# Altium integrated library Analog Devices Data Converters Analog-to-Digital Converters.IntLib: 2400 symbols (part 132 of 338)
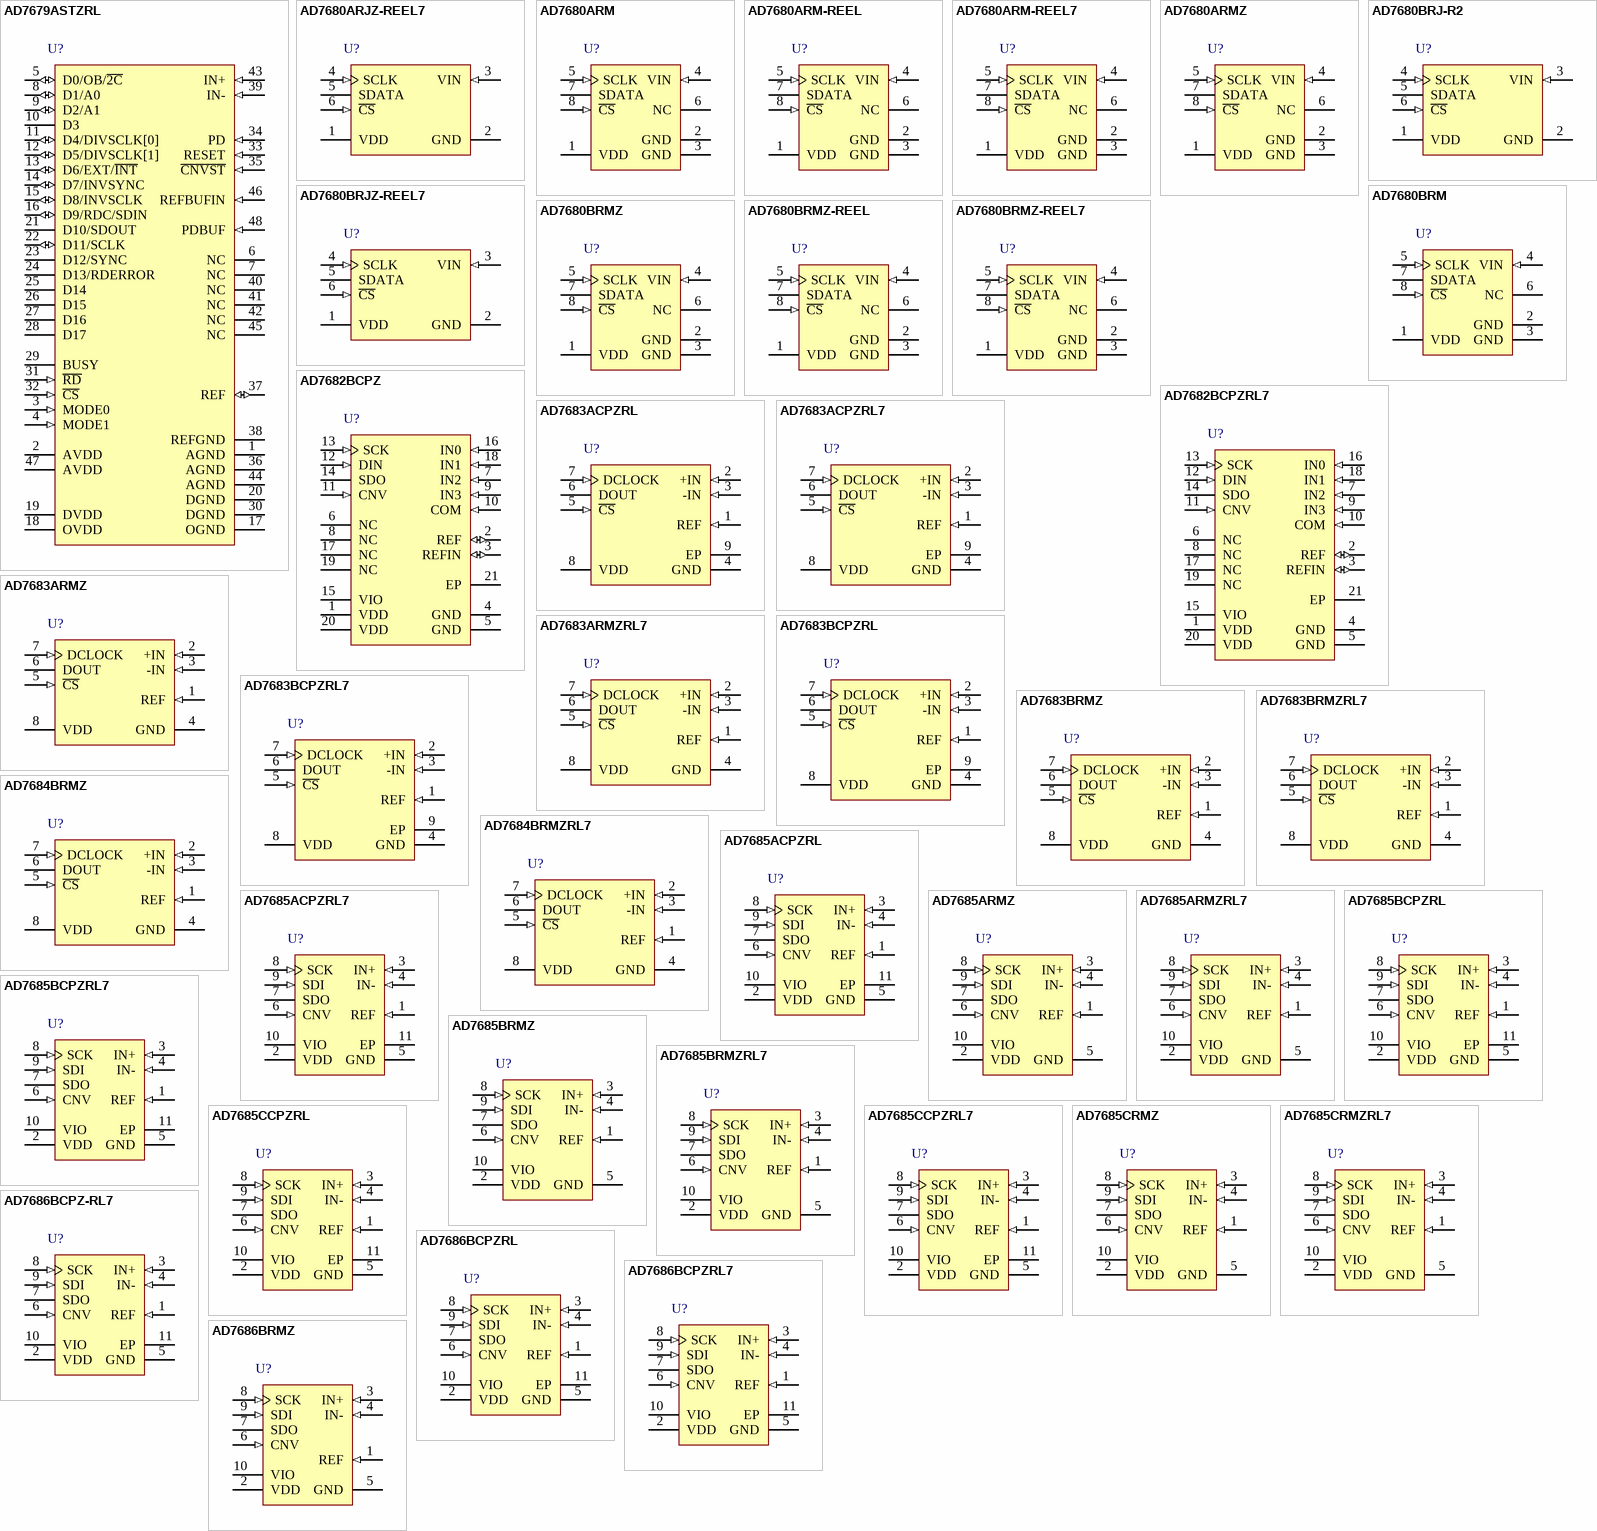
[diagram p331: symbols AD7679ASTZRL to AD7686BRMZ]

## AD7680BRMZ-REEL7
designator U?
Single 16-Bit Analog-to-Digital Converter with Serial, SPI Interface, 100KSPS, -40 to +85 degC, RM-8, Pb-Free, Reel; Part Number: AD7680; Manufacturer: Analog Devices; Resolution (Bits): 16; Channels: 1; Throughput Rate (SPS): 100K; Interface: Ser, SPI; DatasheetVersion: Rev. A; PackageVersion: Aug-2005; PackageReference: RM-8; PackageDescription: 8-Lead Mini Small Outline Package [MSOP]; RoHS: Y; Packing: Reel; Mounting Technology: Surface Mount; Code_JEDEC: MO-187-AA; ComponentLink1Description: Manufacturer URL; ComponentLink1URL: http://www.analog.com/en/index.html; ComponentLink2Description: Datasheet; ComponentLink2URL: http://www.analog.com/static/imported-files/data_sheets/AD7680.pdf; ComponentLink3Description: Package Specification; ComponentLink3URL: http://www.analog.com/static/imported-files/packages/PKG_PDF/MSOP%28RM%29/RM_8.pdf; ComponentLink4Description: Product URL; ComponentLink4URL: http://www.analog.com/en/analog-to-digital-converters/ad-converters/ad7680/products/product.html
footprint RM-8_N (TSOP, 8-Leads, Body 3x3mm, Pitch 0.65mm, IPC Medium Density)
footprint RM-8_L (TSOP, 8-Leads, Body 3x3mm, Pitch 0.65mm, IPC High Density)
footprint RM-8_M (TSOP, 8-Leads, Body 3x3mm, Pitch 0.65mm, IPC Low Density)
pins: 1 VDD (power) "Power Supply Input. The VDD range for the AD7680 is from 2.5 V to 5.5 V.", 2 GND (power) "Analog Ground. Ground reference point for all circuitry on the AD7680. All analog input signals should be referred to this GND voltage.", 3 GND (power) "Analog Ground. Ground reference point for all circuitry on the AD7680. All analog input signals should be referred to this GND voltage.", 4 VIN (in) "Analog Input. Single-ended analog input channel. The input range is 0 V to VDD", 5 SCLK (in) "Serial Clock. Logic input. SCLK provides the serial clock for accessing data from this part. This clock input is also used as the clock source for the AD7680's conversion process.", 6 NC "No Connect. This pin should be left unconnected.", 7 SDATA (hiz) "Data Out. Logic output. The conversion result from the AD7680 is provided on this output as a serial data stream. The bits are clocked out on the falling edge of the SCLK input. The data stream from the AD7680 consists of (See Datasheet)", 8 ~{CS} (in) "Chip Select. Active low logic input. This input provides the dual function of initiating conversions on the AD7680 and framing the serial data transfer."

## AD7682BCPZ
designator U?
Quad 16-Bit PulSAR Analog-to-Digital Converter with Serial, SPI Interface, 250KSPS, -40 to +85 degC, CP-20-4, Pb-Free, Tray; Part Number: AD7682; Manufacturer: Analog Devices; Resolution (Bits): 16; Channels: 4; Throughput Rate (SPS): 250K; Interface: Ser, SPI; DatasheetVersion: Rev.D; PackageVersion: 012508-B; PackageReference: CP-20-4; PackageDescription: 20-Lead Lead Frame Chip Scale Package [LFCSP_VQ] 4 x 4 mm Body, Very Thin Quad; RoHS: Y; Packing: Tray; Mounting Technology: Surface Mount; Code_JEDEC: MO-220-VGGD-1; ComponentLink1Description: Manufacturer URL; ComponentLink1URL: http://www.analog.com/en/index.html; ComponentLink2Description: Datasheet; ComponentLink2URL: http://www.analog.com/static/imported-files/data_sheets/AD7682_7689.pdf; ComponentLink3Description: Package Specification; ComponentLink3URL: http://www.analog.com/static/imported-files/packages/PKG_PDF/LFCSP(CP)/CP_20_4.pdf; ComponentLink4Description: Product URL; ComponentLink4URL: http://www.analog.com/en/analog-to-digital-converters/ad-converters/ad7682/products/product.html
footprint CP-20-4_N (QFN, 20-Leads, Body 4x4mm, Pitch 0.5mm, Thermal Pad 2.5x2.5mm, IPC Medium Density)
footprint CP-20-4_L (QFN, 20-Leads, Body 4x4mm, Pitch 0.5mm, Thermal Pad 2.5x2.5mm, IPC High Density)
footprint CP-20-4_M (QFN, 20-Leads, Body 4x4mm, Pitch 0.5mm, Thermal Pad 2.5x2.5mm, IPC Low Density)
pins: 1 VDD (power) "Power Supply. Nominally 2.5 V to 5.5 V when using an external reference and decoupled with 10 uF and 100 nF capacitors. When using the internal reference for a2.5 V output, the minimum should be 3.0 V. When using the (See Datasheet)", 2 REF (io) "Reference Input/Output. See the Voltage Reference Output/Input section. When the internal reference is enabled, this pin produces a selectable system reference of 2.5 V or 4.096 V. When the internal reference is disabled and (See Datasheet)", 3 REFIN (io) "Internal Reference Output/Reference Buffer Input. See the Voltage Reference Output/Input section. When using the internal reference, the internal unbuffered reference voltage is present and needs decoupling with a 0.1 uF (See Datasheet)", 4 GND (power) "Power Supply Ground.", 5 GND (power) "Power Supply Ground.", 6 NC "no connection.", 7 IN2 (in) "Analog Input Channel 2.", 8 NC "no connection.", 9 IN3 (in) "Analog Input Channel 3.", 10 COM (in) "Common Channel Input. All input channels, IN[7:0], can be referenced to a common-mode point of 0 V or VREF/2 V.", 11 CNV (in) "Conversion Input. On the rising edge, CNV initiates the conversion. During conversion, if CNV is held low, the busy indictor is enabled.", 12 DIN (in) "Data Input. This input is used for writing to the 14-bit configuration register. The configuration register can be written to during and after conversion.", 13 SCK (in) "Serial Data Clock Input. This input is used to clock out the data on SDO and clock in data on DIN in an MSB first fashion.", 14 SDO (hiz) "Serial Data Output. The conversion result is output on this pin, synchronized to SCK. In unipolar modes, conversion results are straight binary; in bipolar modes, conversion results are twos complement.", 15 VIO (power) "Input/Output Interface Digital Power. Nominally at the same supply as the host interface (1.8 V, 2.5 V, 3 V, or 5 V).", 16 IN0 (in) "Analog Input Channel 0.", 17 NC "no connection.", 18 IN1 (in) "Analog Input Channel 1.", 19 NC "no connection.", 20 VDD (power) "Power Supply. Nominally 2.5 V to 5.5 V when using an external reference and decoupled with 10 uF and 100 nF capacitors. When using the internal reference for a2.5 V output, the minimum should be 3.0 V. When using the (See Datasheet)", 21 EP (power) "The exposed pad is not connected internally. For increased reliability of the solder joints, it is recommended that the pad be soldered to the system ground plane."

## AD7682BCPZRL7
designator U?
Quad 16-Bit PulSAR Analog-to-Digital Converter with Serial, SPI Interface, 250KSPS, -40 to +85 degC, CP-20-4, Pb-Free, Reel; Part Number: AD7682; Manufacturer: Analog Devices; Resolution (Bits): 16; Channels: 4; Throughput Rate (SPS): 250K; Interface: Ser, SPI; DatasheetVersion: Rev.D; PackageVersion: 012508-B; PackageReference: CP-20-4; PackageDescription: 20-Lead Lead Frame Chip Scale Package [LFCSP_VQ] 4 x 4 mm Body, Very Thin Quad; RoHS: Y; Packing: Reel; Mounting Technology: Surface Mount; Code_JEDEC: MO-220-VGGD-1; ComponentLink1Description: Manufacturer URL; ComponentLink1URL: http://www.analog.com/en/index.html; ComponentLink2Description: Datasheet; ComponentLink2URL: http://www.analog.com/static/imported-files/data_sheets/AD7682_7689.pdf; ComponentLink3Description: Package Specification; ComponentLink3URL: http://www.analog.com/static/imported-files/packages/PKG_PDF/LFCSP(CP)/CP_20_4.pdf; ComponentLink4Description: Product URL; ComponentLink4URL: http://www.analog.com/en/analog-to-digital-converters/ad-converters/ad7682/products/product.html
footprint CP-20-4_N (QFN, 20-Leads, Body 4x4mm, Pitch 0.5mm, Thermal Pad 2.5x2.5mm, IPC Medium Density)
footprint CP-20-4_L (QFN, 20-Leads, Body 4x4mm, Pitch 0.5mm, Thermal Pad 2.5x2.5mm, IPC High Density)
footprint CP-20-4_M (QFN, 20-Leads, Body 4x4mm, Pitch 0.5mm, Thermal Pad 2.5x2.5mm, IPC Low Density)
pins: 1 VDD (power) "Power Supply. Nominally 2.5 V to 5.5 V when using an external reference and decoupled with 10 uF and 100 nF capacitors. When using the internal reference for a2.5 V output, the minimum should be 3.0 V. When using the (See Datasheet)", 2 REF (io) "Reference Input/Output. See the Voltage Reference Output/Input section. When the internal reference is enabled, this pin produces a selectable system reference of 2.5 V or 4.096 V. When the internal reference is disabled and (See Datasheet)", 3 REFIN (io) "Internal Reference Output/Reference Buffer Input. See the Voltage Reference Output/Input section. When using the internal reference, the internal unbuffered reference voltage is present and needs decoupling with a 0.1 uF (See Datasheet)", 4 GND (power) "Power Supply Ground.", 5 GND (power) "Power Supply Ground.", 6 NC "no connection.", 7 IN2 (in) "Analog Input Channel 2.", 8 NC "no connection.", 9 IN3 (in) "Analog Input Channel 3.", 10 COM (in) "Common Channel Input. All input channels, IN[7:0], can be referenced to a common-mode point of 0 V or VREF/2 V.", 11 CNV (in) "Conversion Input. On the rising edge, CNV initiates the conversion. During conversion, if CNV is held low, the busy indictor is enabled.", 12 DIN (in) "Data Input. This input is used for writing to the 14-bit configuration register. The configuration register can be written to during and after conversion.", 13 SCK (in) "Serial Data Clock Input. This input is used to clock out the data on SDO and clock in data on DIN in an MSB first fashion.", 14 SDO (hiz) "Serial Data Output. The conversion result is output on this pin, synchronized to SCK. In unipolar modes, conversion results are straight binary; in bipolar modes, conversion results are twos complement.", 15 VIO (power) "Input/Output Interface Digital Power. Nominally at the same supply as the host interface (1.8 V, 2.5 V, 3 V, or 5 V).", 16 IN0 (in) "Analog Input Channel 0.", 17 NC "no connection.", 18 IN1 (in) "Analog Input Channel 1.", 19 NC "no connection.", 20 VDD (power) "Power Supply. Nominally 2.5 V to 5.5 V when using an external reference and decoupled with 10 uF and 100 nF capacitors. When using the internal reference for a2.5 V output, the minimum should be 3.0 V. When using the (See Datasheet)", 21 EP (power) "The exposed pad is not connected internally. For increased reliability of the solder joints, it is recommended that the pad be soldered to the system ground plane."

## AD7683ACPZRL
designator U?
Single 16-Bit PulSAR Analog-to-Digital Converter with Serial, SPI Interface, 100KSPS, -40 to +85 degC, CP-8-3, Pb-Free, Reel; Part Number: AD7683; Manufacturer: Analog Devices; Resolution (Bits): 16; Channels: 1; Throughput Rate (SPS): 100K; Interface: Ser, SPI; DatasheetVersion: Rev.A; PackageVersion: 041608-B; PackageReference: CP-8-3; PackageDescription: 8-Lead Lead Frame Chip Scale Package [LFCSP_WD] 3 x 3 mm Body, Very Very Thin, Dual Lead; RoHS: Y; Packing: Reel; Mounting Technology: Surface Mount; ComponentLink1Description: Manufacturer URL; ComponentLink1URL: http://www.analog.com/en/index.html; ComponentLink2Description: Datasheet; ComponentLink2URL: http://www.analog.com/static/imported-files/data_sheets/AD7683.pdf; ComponentLink3Description: Product URL; ComponentLink3URL: http://www.analog.com/en/analog-to-digital-converters/ad-converters/ad7683/products/product.html
footprint CP-8-3_N (SON, 8-Leads, Body 3x3mm, Pitch 0.65mm, Thermal Pad 2.35x1.6mm, IPC Medium Density)
footprint CP-8-3_L (SON, 8-Leads, Body 3x3mm, Pitch 0.65mm, Thermal Pad 2.35x1.6mm, IPC High Density)
footprint CP-8-3_M (SON, 8-Leads, Body 3x3mm, Pitch 0.65mm, Thermal Pad 2.35x1.6mm, IPC Low Density)
pins: 1 REF (in) "Reference Input Voltage. The REF range is from 0.5 V to VDD. It is referred to the GND pin. Decouple the REF pin closely to the GND pin with a ceramic capacitor of a few uF.", 2 +IN (in) "Analog Input. It is referred to Pin -IN. The voltage range, that is, the difference between +IN and -IN, is 0 V to VREF.", 3 -IN (in) "Analog Input Ground Sense. Connect this pin to either the analog ground plane or a remote sense ground.", 4 GND (power) "Power Supply Ground.", 5 ~{CS} (in) "Chip Select Input. On its falling edge, it initiates the conversions. The part returns to shutdown mode as soon as the conversion is completed. It also enables DOUT. When high, DOUT is high impedance.", 6 DOUT (hiz) "Serial Data Output. The conversion result is output on this pin. It is synchronized to DCLOCK.", 7 DCLOCK (in) "Serial Data Clock Input.", 8 VDD (power) "Power Supply.", 9 EP (power) "Exposed pad."

## AD7683ACPZRL7
designator U?
Single 16-Bit PulSAR Analog-to-Digital Converter with Serial, SPI Interface, 100KSPS, -40 to +85 degC, CP-8-3, Pb-Free, Reel; Part Number: AD7683; Manufacturer: Analog Devices; Resolution (Bits): 16; Channels: 1; Throughput Rate (SPS): 100K; Interface: Ser, SPI; DatasheetVersion: Rev.A; PackageVersion: 041608-B; PackageReference: CP-8-3; PackageDescription: 8-Lead Lead Frame Chip Scale Package [LFCSP_WD] 3 x 3 mm Body, Very Very Thin, Dual Lead; RoHS: Y; Packing: Reel; Mounting Technology: Surface Mount; ComponentLink1Description: Manufacturer URL; ComponentLink1URL: http://www.analog.com/en/index.html; ComponentLink2Description: Datasheet; ComponentLink2URL: http://www.analog.com/static/imported-files/data_sheets/AD7683.pdf; ComponentLink3Description: Product URL; ComponentLink3URL: http://www.analog.com/en/analog-to-digital-converters/ad-converters/ad7683/products/product.html
footprint CP-8-3_N (SON, 8-Leads, Body 3x3mm, Pitch 0.65mm, Thermal Pad 2.35x1.6mm, IPC Medium Density)
footprint CP-8-3_L (SON, 8-Leads, Body 3x3mm, Pitch 0.65mm, Thermal Pad 2.35x1.6mm, IPC High Density)
footprint CP-8-3_M (SON, 8-Leads, Body 3x3mm, Pitch 0.65mm, Thermal Pad 2.35x1.6mm, IPC Low Density)
pins: 1 REF (in) "Reference Input Voltage. The REF range is from 0.5 V to VDD. It is referred to the GND pin. Decouple the REF pin closely to the GND pin with a ceramic capacitor of a few uF.", 2 +IN (in) "Analog Input. It is referred to Pin -IN. The voltage range, that is, the difference between +IN and -IN, is 0 V to VREF.", 3 -IN (in) "Analog Input Ground Sense. Connect this pin to either the analog ground plane or a remote sense ground.", 4 GND (power) "Power Supply Ground.", 5 ~{CS} (in) "Chip Select Input. On its falling edge, it initiates the conversions. The part returns to shutdown mode as soon as the conversion is completed. It also enables DOUT. When high, DOUT is high impedance.", 6 DOUT (hiz) "Serial Data Output. The conversion result is output on this pin. It is synchronized to DCLOCK.", 7 DCLOCK (in) "Serial Data Clock Input.", 8 VDD (power) "Power Supply.", 9 EP (power) "Exposed pad."